# Altium schematic symbol library Components - 03.08.24 - 23.SchLib: 1 symbol
Pins are listed as number, name and electrical type; pins without a type are passive.

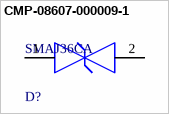
[diagram p0: symbol CMP-08607-000009-1]

## CMP-08607-000009-1
designator D?, comment SMAJ36CA
TVS DIODE 36V 58.1V DO214AC; Manufacturer: Littelfuse Inc; Peak Pulse Power: 400W; Max Junction Temp: +150°C; Direction: Bidirectional; Peak Pulse Current: 6.9A; Number Of Channels: 1; Breakdown Voltage: 40V; Lead Free: Yes; Automotive: No; Device Class L1: Circuit Protection; Digikey Description: TVS DIODE 36V 58.1V DO214AC; Package: SMAJ-CA; Manufacturer Part Number: SMAJ36CA; Mouser Description: In a Pack of 25, Littelfuse SMAJ36CA, Bi-Directional TVS Diode, 400W, 2-Pin DO-214AC; Reverse Standoff Voltage: 36V; Temperature: -65°C to +150°C; Clamping Voltage: 58.1V; Height: 2.29mm; Temperature Range High: +150°C; RoHS: TRUE; Category: Diode; ComponentLink2Description: Datasheet; Device Class L2: TVS Diodes; ComponentLink2URL: https://www.littelfuse.com/~/media/electronics/datasheets/tvs_diodes/littelfuse_tvs_diode_smaj_datasheet.pdf.pdf; Octopart: https://octopart.com/smaj36ca-littelfuse-350098; Device Class L3: unset; Temperature Range Low: -65°C
footprint FP-SMAJ-CA-MFG
pins: 1, 2